# Altium footprint library SMD-RCD 0607.PcbLib: 104 footprints (part 5 of 7)
Each footprint in its own frame and in the unit in brackets; x right, y up, seen from the top. Pads: shape width x height; smd on the part's side, far side on the other; paste and mask are expansions set on the pad; w line width, h text height; cw(c..) or ccw(c..) is an arc to the next point about the centre after c.
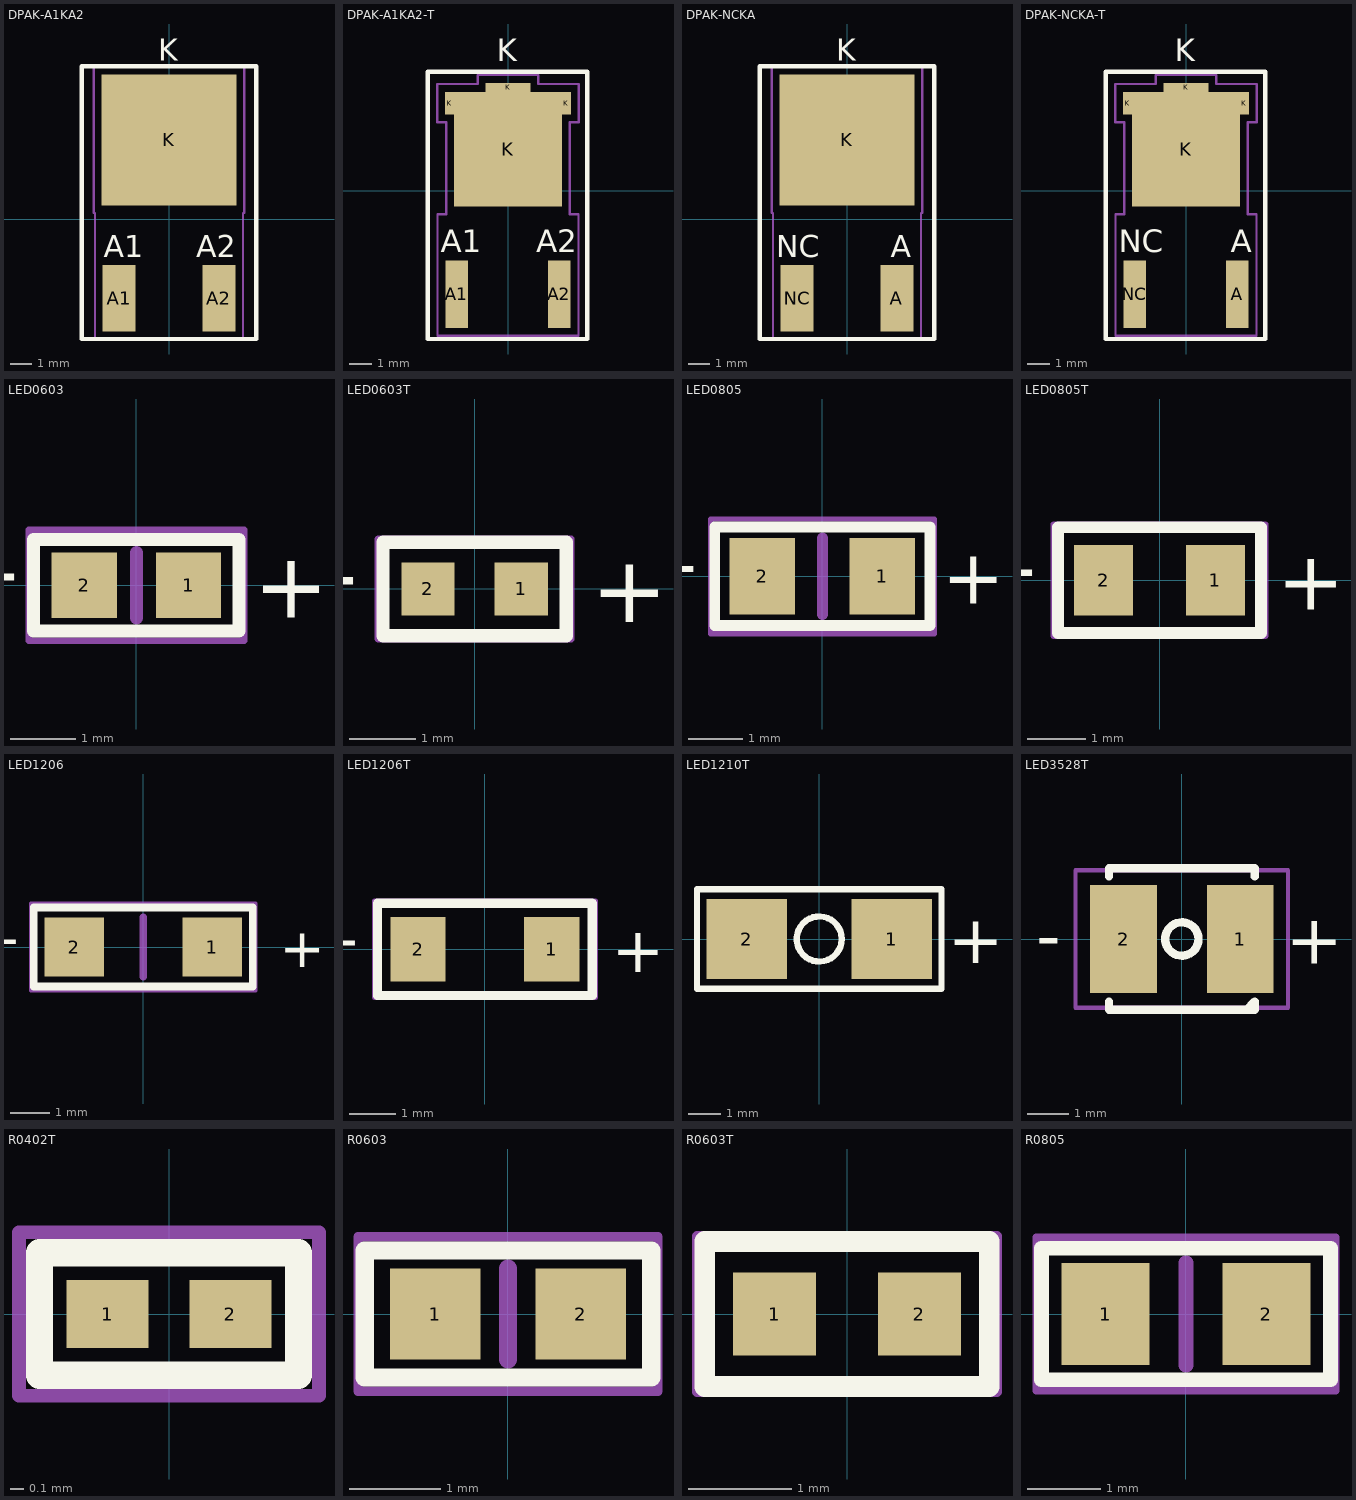
[diagram p4: the footprints below, top view; thin cyan lines are the x and y axes]

## DPAK-A1KA2 [mil]
height 183.07
pads (3):
  rect 60x120 smd: A1(-90,-142.72) A2(90,-142.72)
  rect 244.09x236.22 smd: K(0,142.72)
Top Overlay:
  lines w7.87: -157.48,-216.54 -157.48,275.59 157.48,275.59 157.48,-216.54 -157.48,-216.54
  text "A2" at 49.21,-68.9 h39.37
  text "A1" at -118.11,-68.9 h39.37
  text "K" at -19.68,285.43 h39.37
Mechanical 16:
  lines w3.94: -135.83,10.83 -135.83,274.61 135.83,274.61 135.83,10.83 133.78,10.83 133.78,-216.5 -133.78,-216.5 -133.78,10.83 -135.83,10.83

## DPAK-A1KA2-T [mm]
height 4.65
pads (6):
  rect 1x3 smd: A1(-2.285,-4.6) A2(2.285,-4.6)
  rect 0.4x1 smd: K(-2.6,3.9) K(2.6,3.9)
  rect 4.8x5.1 smd: K(0,1.85)
  rect 2x0.4 smd: K(0,4.6)
Top Overlay:
  lines w0.2: -3.575,-6.6 3.525,-6.6 3.525,5.3 -3.575,5.3 -3.575,-6.6
  text "K" at -0.5,5.75 h1
  text "A1" at -3,-2.75 h1
  text "A2" at 1.25,-2.75 h1
Mechanical 15:
  lines w0.1: -3.15,3.05 -2.75,3.05 -2.75,-1.05 -3.135,-1.05 -3.135,-6.45 3.135,-6.45 3.135,-1.05 2.75,-1.05 2.75,3.05 3.15,3.05 3.15,4.75 1.35,4.75 1.35,5.15 -1.35,5.15 -1.35,4.75 -3.15,4.75 -3.15,3.05

## DPAK-NCKA [mil]
height 183.07
pads (3):
  rect 60x120 smd: A(90,-142.72) NC(-90,-142.72)
  rect 244.09x236.22 smd: K(0,142.72)
Top Overlay:
  lines w7.87: -157.48,-216.54 157.48,-216.54 157.48,275.59 -157.48,275.59 -157.48,-216.54
  text "K" at -19.68,285.43 h39.37
  text "NC" at -127.95,-68.9 h39.37
  text "A" at 78.74,-68.9 h39.37
Mechanical 16:
  lines w3.94: -135.83,10.83 -135.83,274.61 135.83,274.61 135.83,10.83 133.78,10.83 133.78,-216.5 -133.78,-216.5 -133.78,10.83 -135.83,10.83

## DPAK-NCKA-T [mm]
height 4.65
pads (6):
  rect 1x3 smd: A(2.285,-4.6) NC(-2.285,-4.6)
  rect 0.4x1 smd: K(-2.6,3.9) K(2.6,3.9)
  rect 4.8x5.1 smd: K(0,1.85)
  rect 2x0.4 smd: K(0,4.6)
Top Overlay:
  lines w0.2: -3.575,-6.6 3.525,-6.6 3.525,5.3 -3.575,5.3 -3.575,-6.6
  text "K" at -0.5,5.75 h1
  text "NC" at -3,-2.75 h1
  text "A" at 2,-2.75 h1
Mechanical 15:
  lines w0.1: -3.15,3.05 -3.15,4.75 -1.35,4.75 -1.35,5.15 1.35,5.15 1.35,4.75 3.15,4.75 3.15,3.05 2.75,3.05 2.75,-1.05 3.135,-1.05 3.135,-6.45 -3.135,-6.45 -3.135,-1.05 -2.75,-1.05 -2.75,3.05 -3.15,3.05

## LED0603 [mm]
height 0.45
pads (2):
  rect 1x1 smd: 1(0.8,0) 2(-0.8,0)
Top Overlay:
  lines w0.2: -1.575,-0.7 1.575,-0.7 1.575,0.7 -1.575,0.7 -1.575,-0.7
  text "-" at -1.8,0.5 h1
  text "+" at 1.8,-0.5 h1
Mechanical 9:
  lines w0.2: 0,-0.5 0,0.5
Mechanical 16:
  lines w0.1: -1.65,-0.85 -1.65,0.85 1.65,0.85 1.65,-0.85 -1.65,-0.85

## LED0603T [mm]
height 0.45
pads (2):
  rect 0.8x0.8 smd: 1(0.7,0) 2(-0.7,0)
Top Overlay:
  lines w0.2: -1.375,-0.7 1.375,-0.7 1.375,0.7 -1.375,0.7 -1.375,-0.7
  text "+" at 1.75,-0.5 h1
  text "-" at -1.75,0.5 h1
Mechanical 15:
  lines w0.1: -1.45,-0.75 -1.45,0.75 1.45,0.75 1.45,-0.75 -1.45,-0.75

## LED0805 [mm]
height 0.4
pads (2):
  rect 1.2x1.4 smd: 1(1.1,0) 2(-1.1,0)
Top Overlay:
  lines w0.2: -1.975,-0.9 1.975,-0.9 1.975,0.9 -1.975,0.9 -1.975,-0.9
  text "+" at 2.2,-0.5 h1
  text "-" at -2.3,0.5 h1
Mechanical 9:
  lines w0.2: 0,-0.7 0,0.7
Mechanical 16:
  lines w0.1: -2.05,-1.05 2.05,-1.05 2.05,1.05 -2.05,1.05 -2.05,-1.05

## LED0805T [mm]
height 0.4
pads (2):
  rect 1x1.2 smd: 1(0.95,0) 2(-0.95,0)
Top Overlay:
  lines w0.2: -1.725,-0.9 -1.725,0.9 1.725,0.9 1.725,-0.9 -1.725,-0.9
  text "-" at -2.1,0.5 h1
  text "+" at 2,-0.5 h1
Mechanical 15:
  lines w0.1: -1.8,-0.95 1.8,-0.95 1.8,0.95 -1.8,0.95 -1.8,-0.95

## LED1206 [mm]
height 1.1
pads (2):
  rect 1.5x1.5 smd: 1(1.75,0) 2(-1.75,0)
Top Overlay:
  lines w0.2: -2.775,-1 -2.775,1 2.775,1 2.775,-1 -2.775,-1
  text "-" at -3.149,0.508 h1
  text "+" at 3.455,-0.508 h1
Mechanical 9:
  lines w0.2: 0,-0.75 0,0.75
Mechanical 16:
  lines w0.1: -2.85,-1.1 -2.85,1.1 2.85,1.1 2.85,-1.1 -2.85,-1.1

## LED1206T [mm]
height 1.1
pads (2):
  rect 1.2x1.4 smd: 1(1.45,0) 2(-1.45,0)
Top Overlay:
  lines w0.2: -2.325,-1 -2.325,1 2.325,1 2.325,-1 -2.325,-1
  text "-" at -2.75,0.5 h1
  text "+" at 2.75,-0.5 h1
Mechanical 15:
  lines w0.1: -2.4,-1.05 2.4,-1.05 2.4,1.05 -2.4,1.05 -2.4,-1.05

## LED1210T [mm] "42-21SURC-S530-A3-TR8"
height 2.5
pads (2):
  rect 2.5x2.5 smd: 1(2.25,0) 2(-2.25,0)
Top Overlay:
  circle w0.2: c0,0 r0.7
  lines w0.2: -3.8,-1.55 -3.8,1.55 3.8,1.55 3.8,-1.55 -3.8,-1.55
  text "+" at 4,-0.75 h1.52

## LED3528T [mm]
height 1.75
pads (2):
  rect 1.6x2.6 smd: 1(1.4,0) 2(-1.4,0)
Top Overlay:
  circle w0.2: c0,0 r0.4
  lines w0.2: -1.75,-1.5 -1.75,-1.7 1.75,-1.7 1.75,-1.5 1.55,-1.7 ; -1.75,1.5 -1.75,1.7 1.75,1.7 1.75,1.5
  text "+" at 2.5,-0.6 h1.2
  text "-" at -3.5,-0.5 h1.2
Mechanical 15:
  lines w0.1: -2.55,-1.65 -2.55,1.65 2.55,1.65 2.55,-1.65 -2.55,-1.65

## R0402T [mm]
height 0.45
pads (2):
  rect 0.6x0.5 smd: 1(-0.45,0) 2(0.45,0)
Top Overlay:
  lines w0.2: -0.95,-0.45 -0.95,0.45 0.95,0.45 0.95,-0.45 -0.95,-0.45
Mechanical 15:
  lines w0.1: -1.1,-0.6 -1.1,0.6 1.1,0.6 1.1,-0.6 -1.1,-0.6

## R0603 [mm]
height 0.45
pads (2):
  rect 1x1 smd: 1(-0.8,0) 2(0.8,0)
Top Overlay:
  lines w0.2: -1.575,-0.7 -1.575,0.7 1.575,0.7 1.575,-0.7 -1.575,-0.7
Mechanical 9:
  lines w0.2: 0,-0.5 0,0.5
Mechanical 16:
  lines w0.1: -1.65,-0.85 1.65,-0.85 1.65,0.85 -1.65,0.85 -1.65,-0.85

## R0603T [mm]
height 0.45
pads (2):
  rect 0.8x0.8 smd: 1(-0.7,0) 2(0.7,0)
Top Overlay:
  lines w0.2: -1.375,-0.7 1.375,-0.7 1.375,0.7 -1.375,0.7 -1.375,-0.7
Mechanical 15:
  lines w0.1: -1.45,-0.75 -1.45,0.75 1.45,0.75 1.45,-0.75 -1.45,-0.75

## R0805 [mm]
height 0.45
pads (2):
  rect 1.2x1.4 smd: 1(-1.1,0) 2(1.1,0)
Top Overlay:
  lines w0.2: -1.975,-0.9 1.975,-0.9 1.975,0.9 -1.975,0.9 -1.975,-0.9
Mechanical 9:
  lines w0.2: 0,-0.7 0,0.7
Mechanical 16:
  lines w0.1: -2.05,-1.05 -2.05,1.05 2.05,1.05 2.05,-1.05 -2.05,-1.05